# Altium footprint library TO-263-5.PcbLib: 1 footprints
Each footprint in its own frame and in the unit in brackets; x right, y up, seen from the top. Pads: shape width x height; smd on the part's side, far side on the other; paste and mask are expansions set on the pad; w line width, h text height; cw(c..) or ccw(c..) is an arc to the next point about the centre after c.
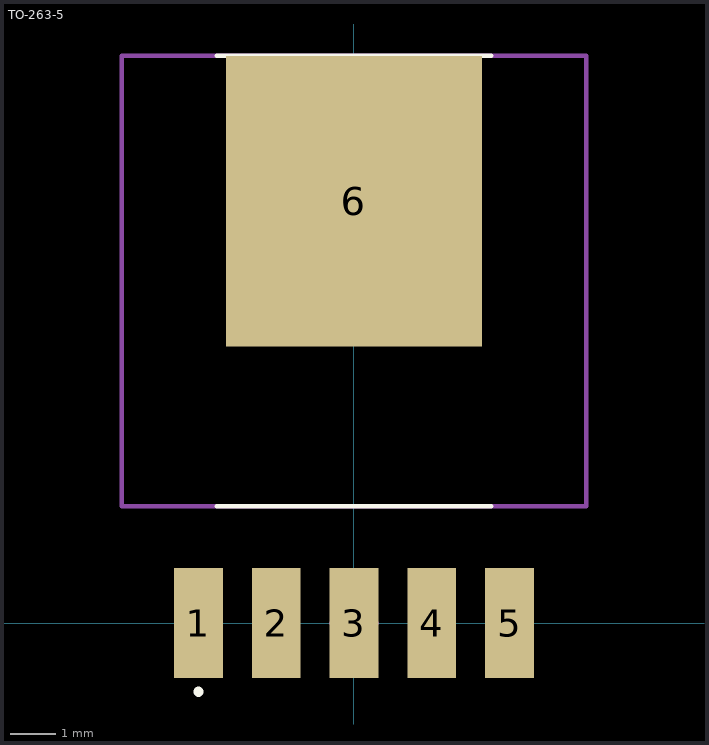
[diagram p0: the footprint, top view; thin cyan lines are the x and y axes]

## TO-263-5 [mm]
pads (6):
  rect 1.07x2.41 smd mask+0.051: 1(-3.4,0) 2(-1.7,0) 3(0,0) 4(1.7,0) 5(3.4,0)
  rect 5.59x6.35 smd mask+0.051: 6(0,9.225)
Top Overlay:
  circle w0.2: c-3.4,-1.5 r0.01
  lines w0.1: -3,2.55 3,2.55 ; -3,12.4 3,12.4
Mechanical 13:
  lines w0.1: -5.08,2.55 -5.08,12.4 5.08,12.4 5.08,2.55 0,2.55 -5.08,2.55
Mechanical 15:
  lines w0.1: -0.5,0 0,0 ; 0,-0.5 0,0 ; 0,0.5 0,0 ; 0.5,0 0,0
3D body "TO-263-5.step": height 4.58, standoff 0, extent -5.08,-2.241 5.08,12.4